# Altium footprint library LPEDT_project_library.PcbLib: 13 footprints
Each footprint in its own frame and in the unit in brackets; x right, y up, seen from the top. Pads: shape width x height; smd on the part's side, far side on the other; paste and mask are expansions set on the pad; w line width, h text height; cw(c..) or ccw(c..) is an arc to the next point about the centre after c.
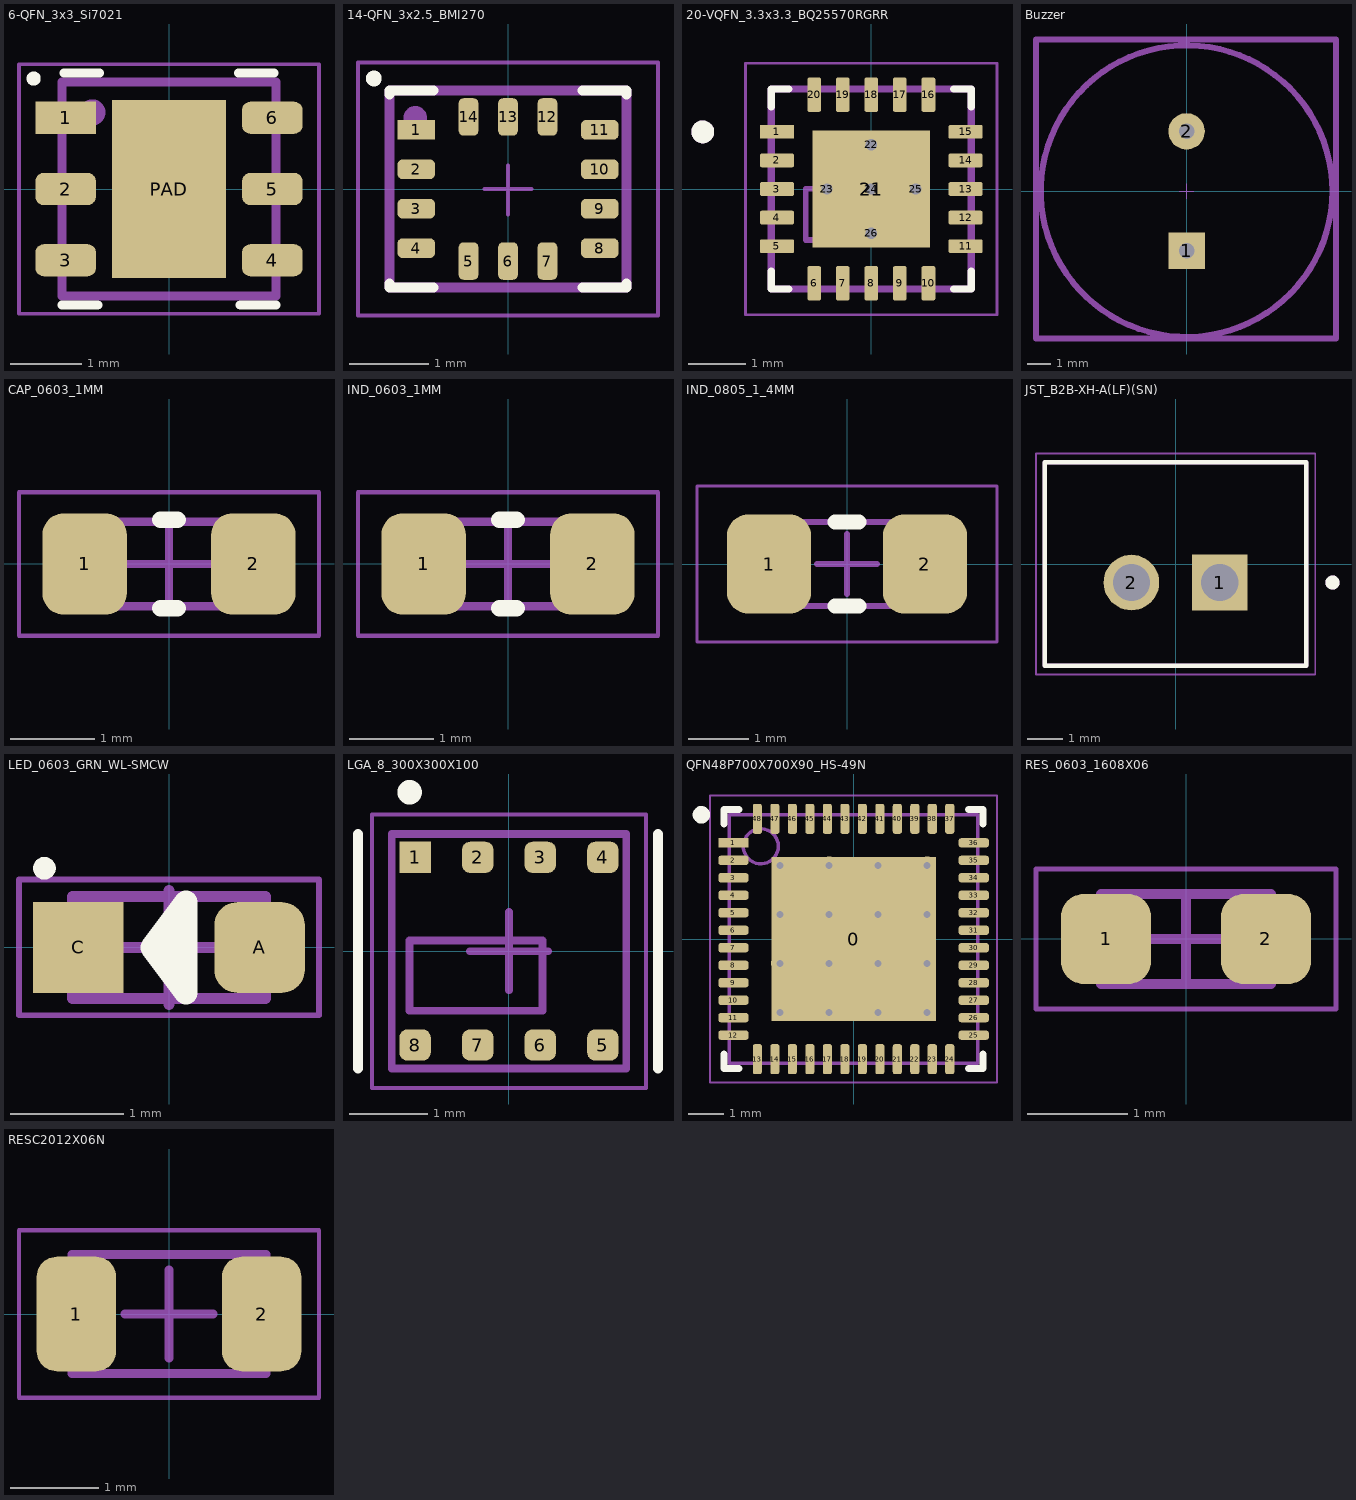
[diagram p0: the footprints below, top view; thin cyan lines are the x and y axes]

## 6-QFN_3x3_Si7021 [mm] "QFN, 6-Leads, Body 3.00mmx2.50mm, Pitch 0.02, IPC Medium Density"
pads (7):
  rect 0.85x0.45 smd mask+0.06: 1(-1.45,1)
  rrect50% 0.85x0.45 smd mask+0.06: 2(-1.45,0) 3(-1.45,-1) 4(1.45,-1) 5(1.45,0) 6(1.45,1)
  rect 1.6x2.5 smd paste-2 mask+0.06: PAD(0,0)
Top Overlay:
  circle w0.1: c-1.9,1.55 r0.05
  lines w0.127: -1.5,-1.625 -1,-1.625 ; -1.475,1.625 -0.975,1.625 ; 0.975,1.625 1.475,1.625 ; 1,-1.625 1.5,-1.625
Top Paste:
  region: 0.8,0.127 -0.802,0.127 -0.802,1.249 0.8,1.249
  region: 0.801,-1.245 -0.801,-1.245 -0.801,-0.097 0.801,-0.097
Mechanical 13:
  circle w0.254: c-1.075,1.075 r0.056
  lines w0.127: -1.5,-1.5 1.5,-1.5 1.5,1.5 -1.5,1.5 -1.5,-1.5
  text ".Designator" at -1.13,-0.913 h0.65
Mechanical 15:
  lines w0.05: -0.325,0 0,0 ; 0,-0.3 0,0 ; 0,0.3 0,0 ; 0.3,0 0,0 ; -2.105,-1.75 2.105,-1.75 2.105,1.75 -2.105,1.75 -2.105,-1.75
3D body "SI7021-A20-IM.STEP": height 1.21, standoff 0, extent -1.5,-1.5 1.5,1.5

## 14-QFN_3x2.5_BMI270 [mm] "QFN, 14-Leads, Body 3.00mmx2.50mm, Pitch 0.13, IPC Medium Density"
height 0.87
pads (14):
  rect 0.475x0.25 smd mask+0.09: 1(-1.162,0.75)
  rrect50% 0.475x0.25 smd mask+0.09: 2(-1.162,0.25) 3(-1.162,-0.25) 4(-1.162,-0.75) 8(1.162,-0.75) 9(1.162,-0.25) 10(1.162,0.25) 11(1.162,0.75)
  rrect50% 0.25x0.475 smd mask+0.09: 5(-0.5,-0.913) 6(0,-0.913) 7(0.5,-0.913) 12(0.5,0.913) 13(0,0.913) 14(-0.5,0.913)
Top Overlay:
  circle w0.1: c-1.7,1.4 r0.05
  lines w0.127: -1.5,-1.195 -1.5,-1.25 -0.945,-1.25 ; -1.5,1.195 -1.5,1.25 -0.945,1.25 ; 0.945,-1.25 1.5,-1.25 1.5,-1.195 ; 0.945,1.25 1.5,1.25 1.5,1.195
Mechanical 13:
  circle w0.15: c-1.175,0.9 r0.075
  lines w0.127: -1.5,-1.25 1.5,-1.25 1.5,1.25 -1.5,1.25 -1.5,-1.25
  text ".Designator" at -0.88,-0.363 h0.65
Mechanical 15:
  lines w0.05: -0.3,0 0,0 ; 0,-0.325 0,0 ; 0,0.3 0,0 ; 0.3,0 0,0 ; -1.9,-1.6 -1.9,1.6 1.9,1.6 1.9,-1.6 -1.9,-1.6
3D body "step_temp.STEP": height 0.87, standoff 0, extent -1.5,-1.25 1.5,1.25

## 20-VQFN_3.3x3.3_BQ25570RGRR [mm] "VQFN, 20-Leads, Body 3.30mmx3.30mm, IPC Medium Density"
height 1
pads (26):
  rect 0.6x0.24 smd mask+0: 1(-1.65,1)
  rrect27% 0.6x0.24 smd mask+0: 2(-1.65,0.5) 3(-1.65,0) 4(-1.65,-0.5) 5(-1.65,-1) 11(1.65,-1) 12(1.65,-0.5) 13(1.65,0) 14(1.65,0.5) 15(1.65,1)
  rrect27% 0.24x0.6 smd mask+0: 6(-1,-1.65) 7(-0.5,-1.65) 8(0,-1.65) 9(0.5,-1.65) 10(1,-1.65) 16(1,1.65) 17(0.5,1.65) 18(0,1.65) 19(-0.5,1.65) 20(-1,1.65)
  rect 2.05x2.05 smd paste-2 mask+0.07: 21(0,0)
  round 0.3 hole 0.2 mask+0: 22(0,0.775) 23(-0.775,0) 24(0,0) 25(0.775,0) 26(0,-0.775)
Top Overlay:
  circle w0.2: c-2.95,1 r0.1
  lines w0.127: -1.75,-1.44 -1.75,-1.75 -1.44,-1.75 ; -1.75,1.44 -1.75,1.75 -1.44,1.75 ; 1.44,-1.75 1.75,-1.75 1.75,-1.44 ; 1.44,1.75 1.75,1.75 1.75,1.44
Top Paste:
  region: -0.1,0.1 -1.02,0.1 -1.02,1.02 -0.1,1.02
  region: 1.02,0.1 0.1,0.1 0.1,1.02 1.02,1.02
  region: -0.1,-1.02 -1.02,-1.02 -1.02,-0.1 -0.1,-0.1
  region: 1.02,-1.02 0.1,-1.02 0.1,-0.1 1.02,-0.1
Top Solder:
  drawing of 20 lines, arcs and shapes, not listed
Mechanical 13:
  circle w0.2: c-2.95,1 r0.1
  lines w0.1: -1.146,-0.894 0.554,-0.894 0.554,0.006 -1.146,0.006 -1.146,-0.894
  lines w0.127: -1.75,-1.75 1.75,-1.75 1.75,1.75 -1.75,1.75 -1.75,-1.75
  text ".Designator" at -0.962,-0.614 h0.4
Mechanical 15:
  lines w0.05: -0.3,0 0,0 ; 0,-0.325 0,0 ; 0,0.3 0,0 ; 0.3,0 0,0 ; -2.2,-2.2 -2.2,2.2 2.2,2.2 2.2,-2.2 -2.2,-2.2
3D body "step_temp.STEP": height 1, standoff 0, extent -1.75,-1.75 1.75,1.75

## Buzzer [mm]
pads (2):
  rect 1.524x1.524 hole 0.65: 1(0,-2.5)
  round 1.524 hole 0.65: 2(0,2.5)
Mechanical 13:
  circle w0.254: c0,0 r6.1
  text ".Designator" at -2.705,-1.293 h0.56
Mechanical 15:
  lines w0.05: -0.3,0 0,0 ; 0,-0.325 0,0 ; 0,0.3 0,0 ; 0.3,0 0,0
  lines w0.254: -6.3,-6.175 6.25,-6.175 6.25,6.35 -6.3,6.35 -6.3,-6.175
3D body "PS1240P02BT.step": height 6, standoff -15, extent -6.104,-6.104 6.096,6.096

## CAP_0603_1MM [mm] "Chip Capacitor, 2-Leads, Body 1.60x0.80mm, IPC Medium Density"
height 1
pads (2):
  rrect50% 1x1.2 smd: 1(-1,0) 2(1,0)
Top Overlay:
  lines w0.2: -0.1,-0.525 0.1,-0.525 ; -0.1,0.525 0.1,0.525
Mechanical 13:
  lines w0.1: -0.9,-0.5 0.9,-0.5 0.9,0.5 -0.9,0.5 -0.9,-0.5
  text ".Designator" at -0.723,-0.254 h0.5
Mechanical 15:
  lines w0.05: -1.778,-0.85 1.778,-0.85 1.778,0.85 -1.778,0.85 -1.778,-0.85
  lines w0.1: -0.5,0 0.5,0 ; 0,-0.5 0,0.5
3D body "CAP_0603_1608X10.step": height 1, standoff 0, extent -0.9,-0.5 0.9,0.5

## IND_0603_1MM [mm] "Fixed Inductor, 2-Leads, Body 1.60x0.80mm, IPC Medium Density"
height 1
pads (2):
  rrect50% 1x1.2 smd: 1(-1,0) 2(1,0)
Top Overlay:
  lines w0.2: -0.1,-0.525 0.1,-0.525 ; -0.1,0.525 0.1,0.525
Mechanical 13:
  lines w0.1: -0.9,-0.5 -0.9,0.5 0.9,0.5 0.9,-0.5 -0.9,-0.5
  text ".Designator" at -0.723,-0.254 h0.5
Mechanical 15:
  lines w0.05: -1.778,-0.85 -1.778,0.85 1.778,0.85 1.778,-0.85 -1.778,-0.85
  lines w0.1: -0.5,0 0.5,0 ; 0,-0.5 0,0.5
3D body "CAP_0603_1608X10.step": height 1, standoff 0, extent -0.9,-0.5 0.9,0.5

## IND_0805_1_4MM [mm] "Fixed Inductor, 2-Leads, Body 2.00x1.25mm, IPC Medium Density"
height 1.4
pads (2):
  rrect50% 1.4x1.65 smd: 1(-1.3,0) 2(1.3,0)
Top Overlay:
  lines w0.254: -0.2,-0.7 0.2,-0.7 ; -0.2,0.7 0.2,0.7
Mechanical 13:
  lines w0.1: -1.075,-0.7 -1.075,0.7 1.075,0.7 1.075,-0.7 -1.075,-0.7
  text ".Designator" at -0.82,-0.52 h0.9
Mechanical 15:
  lines w0.05: -2.5,-1.3 -2.5,1.3 2.5,1.3 2.5,-1.3 -2.5,-1.3
  lines w0.1: -0.5,0 0.5,0 ; 0,-0.5 0,0.5
3D body "CAP_0805_1_4MM.step": height 1.4, standoff 0, extent -1.075,-0.7 1.075,0.7

## JST_B2B-XH-A(LF)(SN) [mm]
height 7
pads (2):
  rect 1.575x1.575 / inner round 1.575 / far side rect 1.575x1.575 hole 1.05: 1(1.25,-0.525)
  round 1.575 hole 1.05: 2(-1.25,-0.525)
Top Overlay:
  circle w0.2: c4.44,-0.525 r0.1
  lines w0.127: -3.7,-2.875 -3.7,2.875 3.7,2.875 3.7,-2.875 -3.7,-2.875
Mechanical 13:
  circle w0.2: c4.44,-0.525 r0.1
  lines w0.127: -3.7,-2.875 -3.7,2.875 3.7,2.875 3.7,-2.875 -3.7,-2.875
  text ".Designator" at -2.32,1.18 h0.9
Mechanical 15:
  lines w0.05: -3.95,-3.125 3.95,-3.125 3.95,3.125 -3.95,3.125 -3.95,-3.125
3D body "step_temp.STEP": height 7, standoff -3.4, extent -3.7,-2.875 3.7,2.875

## LED_0603_GRN_WL-SMCW [mm] "SODFL, 2-Leads, Body 0.80x1.80mm, IPC Medium Density"
height 0.8
pads (2):
  rrect50% 0.8x0.8 smd: A(0.8,0)
  rect 0.8x0.8 smd: C(-0.8,0)
Top Overlay:
  circle w0.1: c-1.1,0.7 r0.05
  lines w0.2: -0.15,0 0.05,0
  lines w0.205: -0.15,0 0.15,-0.4 0.15,0.4 -0.15,0
Mechanical 13:
  lines w0.1: -0.85,-0.45 -0.85,0.45 0.85,0.45 0.85,-0.45 -0.85,-0.45
  text ".Designator" at -0.723,-0.254 h0.5
Mechanical 15:
  lines w0.05: -1.325,-0.6 -1.325,0.6 1.325,0.6 1.325,-0.6 -1.325,-0.6
  lines w0.1: -0.5,0 0.5,0 ; 0,-0.5 0,0.5
3D body "LED_0603_WURTH_WL-SMCW_lens.step": height 0.71, standoff 0.31, extent -0.55,-0.4 0.55,0.4
3D body "LED_0603_WURTH_WL-SMCW_base.step": height 0.65, standoff 0.01, extent -0.8,-0.4 0.8,0.4

## LGA_8_300X300X100 [mm] "LGA, 8-Leads, Body 3.00x3.00mmx1.00mm, Pitch 0.80mm"
height 1
pads (8):
  rect 0.4x0.4 smd: 1(-1.2,1.2)
  rrect50% 0.4x0.4 smd: 2(-0.4,1.2) 3(0.4,1.2) 4(1.2,1.2) 5(1.2,-1.2) 7(-0.4,-1.2) 8(-1.2,-1.2)
  rrect50% 0.4x0.4 smd mask+0.102: 6(0.4,-1.2)
Top Overlay:
  circle w0.25: c-1.27,2.032 r0.03
  lines w0.127: -1.93,-1.501 -1.93,1.499 ; 1.905,-1.501 1.905,1.499
Mechanical 13:
  lines w0.1: -1.5,-1.5 1.5,-1.5 1.5,1.5 -1.5,1.5 -1.5,-1.5 ; -1.27,-0.762 0.43,-0.762 0.43,0.138 -1.27,0.138 -1.27,-0.762
  text ".Designator" at -1.066,-0.432 h0.4
Mechanical 15:
  lines w0.05: -1.75,-1.75 1.75,-1.75 1.75,1.75 -1.75,1.75 -1.75,-1.75
  lines w0.1: -0.5,0 0.5,0 ; 0,-0.5 0,0.5
3D body "BME688--3DModel-STEP-56544.STEP": height 1, standoff 0, extent -1.498,-1.518 1.502,1.482

## QFN48P700X700X90_HS-49N [mm] "QFN, 48-Leads, Body 7.00x7.00mm, Pitch 0.50mm, Thermal Pad 4.70x4.70mm, IPC Medium Density"
height 0.9
pads (49):
  rect 4.7x4.7 smd paste-200 mask+0.05: 0(0,0)
  rect 0.86x0.26 smd mask+0.05: 1(-3.435,2.75)
  rrect50% 0.86x0.26 smd mask+0.05: 2(-3.435,2.25) 3(-3.435,1.75) 4(-3.435,1.25) 5(-3.435,0.75) 6(-3.435,0.25) 7(-3.435,-0.25) 8(-3.435,-0.75) 9(-3.435,-1.25) 10(-3.435,-1.75) 11(-3.435,-2.25) 12(-3.435,-2.75) 25(3.435,-2.75) 26(3.435,-2.25) 27(3.435,-1.75) 28(3.435,-1.25) 29(3.435,-0.75) 30(3.435,-0.25) 31(3.435,0.25) 32(3.435,0.75) 33(3.435,1.25) 34(3.435,1.75) 35(3.435,2.25) 36(3.435,2.75)
  rrect50% 0.26x0.86 smd mask+0.05: 13(-2.75,-3.435) 14(-2.25,-3.435) 15(-1.75,-3.435) 16(-1.25,-3.435) 17(-0.75,-3.435) 18(-0.25,-3.435) 19(0.25,-3.435) 20(0.75,-3.435) 21(1.25,-3.435) 22(1.75,-3.435) 23(2.25,-3.435) 24(2.75,-3.435) 37(2.75,3.435) 38(2.25,3.435) 39(1.75,3.435) 40(1.25,3.435) 41(0.75,3.435) 42(0.25,3.435) 43(-0.25,3.435) 44(-0.75,3.435) 45(-1.25,3.435) 46(-1.75,3.435) 47(-2.25,3.435) 48(-2.75,3.435)
via -0.701,2.101 diameter 0.5 hole 0.2
via 0.7,-2.098 diameter 0.5 hole 0.2
via -0.7,-2.1 diameter 0.5 hole 0.2
via 0.699,2.101 diameter 0.5 hole 0.2
via 2.099,0.701 diameter 0.5 hole 0.2
via 2.102,-0.699 diameter 0.5 hole 0.2
via -2.103,-0.7 diameter 0.5 hole 0.2
via -2.101,0.7 diameter 0.5 hole 0.2
via -0.701,0.701 diameter 0.5 hole 0.2
via -2.099,-2.1 diameter 0.5 hole 0.2
via 2.099,-2.1 diameter 0.5 hole 0.2
via 2.1,2.101 diameter 0.5 hole 0.2
via -2.101,2.101 diameter 0.5 hole 0.2
via 0.699,0.701 diameter 0.5 hole 0.2
via -0.701,-0.7 diameter 0.5 hole 0.2
via 0.7,-0.698 diameter 0.5 hole 0.2
Top Overlay:
  circle w0.25: c-4.35,3.55 r0.125
  lines w0.2: -3.7,-3.28 -3.7,-3.7 -3.28,-3.7 ; -3.7,3.28 -3.7,3.7 -3.28,3.7 ; 3.28,-3.7 3.7,-3.7 3.7,-3.28 ; 3.28,3.7 3.7,3.7 3.7,3.28
Top Paste:
  rectangle: -0.522,-1.921 0.518,-0.881
  rectangle: -1.925,-1.922 -0.885,-0.882
  rectangle: -1.916,-0.518 -0.876,0.522
  rectangle: -0.516,-0.524 0.524,0.516
  rectangle: 0.883,-0.523 1.923,0.517
  rectangle: 0.881,-1.92 1.921,-0.88
  rectangle: 0.873,0.889 1.913,1.929
  rectangle: -0.524,0.862 0.516,1.902
  rectangle: -1.921,0.886 -0.881,1.926
Mechanical 13:
  circle w0.1: c-2.65,2.65 r0.5
  lines w0.1: -3.55,-3.55 -3.55,3.55 3.55,3.55 3.55,-3.55 -3.55,-3.55
  text ".Designator" at -3.423,-3.169 h0.76
Mechanical 15:
  lines w0.05: -4.1,-4.1 -4.1,4.1 4.1,4.1 4.1,-4.1 -4.1,-4.1
  lines w0.1: -0.5,0 0.5,0 ; 0,-0.5 0,0.5
3D body: height 0.25, standoff 0, extent -3.551,-3.551 3.551,3.551

## RES_0603_1608X06 [mm] "Chip Resistor, 2-Leads, Body 1.60x0.80mm, IPC Medium Density"
height 0.55
pads (2):
  rrect50% 0.9x0.9 smd: 1(-0.8,0) 2(0.8,0)
Mechanical 13:
  lines w0.1: -0.85,-0.45 0.85,-0.45 0.85,0.45 -0.85,0.45 -0.85,-0.45
  text ".Designator" at -0.635,-0.254 h0.4
Mechanical 15:
  lines w0.05: -1.5,-0.7 1.5,-0.7 1.5,0.7 -1.5,0.7 -1.5,-0.7
  lines w0.1: -0.45,0 0.45,0 ; 0,-0.45 0,0.45
3D body "0603_1608X05N.step": height 0.45, standoff 0, extent -0.775,-0.425 0.775,0.425

## RESC2012X06N [mm] "Chip Resistor, 2-Leads, Body 2.00x1.25mm, IPC Medium Density"
height 0.65
pads (2):
  rrect50% 0.9x1.3 smd: 1(-1.05,0) 2(1.05,0)
Mechanical 13:
  lines w0.1: -1.1,-0.675 1.1,-0.675 1.1,0.675 -1.1,0.675 -1.1,-0.675
Mechanical 15:
  lines w0.05: -1.7,-0.95 1.7,-0.95 1.7,0.95 -1.7,0.95 -1.7,-0.95
  lines w0.1: -0.5,0 0.5,0 ; 0,-0.5 0,0.5
3D body "RESC2012X06N.step": height 0.65, standoff 0, extent -1.1,-0.675 1.1,0.675